# EAGLE library part 16-PIN-HEADER (library 16-PIN-HEADER)
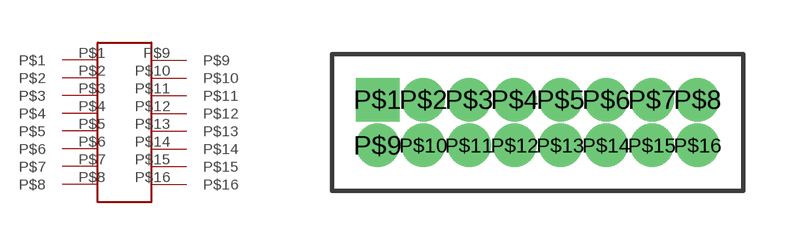
[diagram p0: symbol with the pads of 16-PIN-HEADER; footprint 16-PIN-HEADER]

Designator prefix -

## 16-PIN-HEADER  [16-PIN-HEADER]
P$1  P$1
P$2  P$2
P$3  P$3
P$4  P$4
P$5  P$5
P$6  P$6
P$7  P$7
P$8  P$8
P$9  P$9
P$10  P$10
P$11  P$11
P$12  P$12
P$13  P$13
P$14  P$14
P$15  P$15
P$16  P$16

## Footprint 16-PIN-HEADER (pad centres in mm)
drill 0.7 square: P$1 0,0
drill 0.7: P$2 1.27,0; P$3 2.54,0; P$4 3.81,0; P$5 5.08,0; P$6 6.35,0; P$7 7.62,0; P$8 8.89,0; P$9 0,-1.27; P$10 1.27,-1.27; P$11 2.54,-1.27; P$12 3.81,-1.27; P$13 5.08,-1.27; P$14 6.35,-1.27; P$15 7.62,-1.27; P$16 8.89,-1.27